# Altium schematic symbol library Iot_Flatform_lib_schematic.SchLib: 10 symbols
Pins are listed as number, name and electrical type; pins without a type are passive.

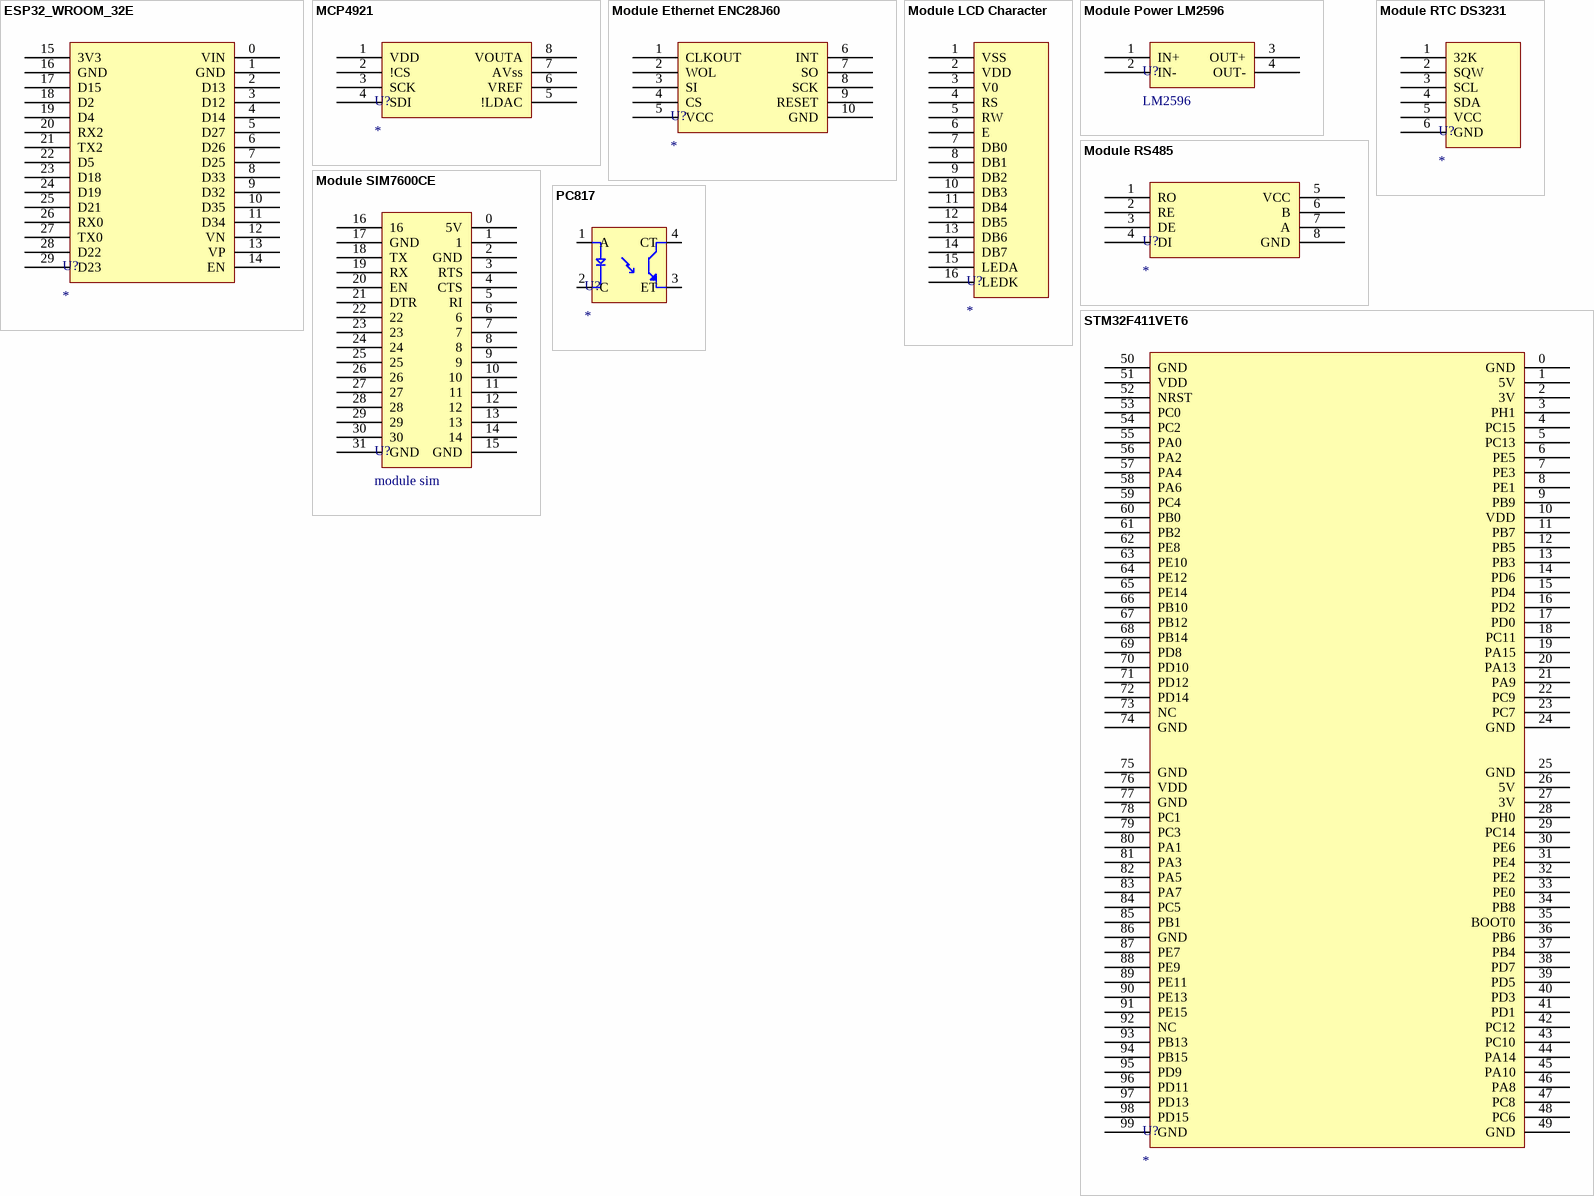
[diagram p0: symbols ESP32_WROOM_32E to STM32F411VET6]

## ESP32_WROOM_32E
designator U?
pins: 0 VIN, 1 GND, 2 D13, 3 D12, 4 D14, 5 D27, 6 D26, 7 D25, 8 D33, 9 D32, 10 D35, 11 D34, 12 VN, 13 VP, 14 EN, 15 3V3, 16 GND, 17 D15, 18 D2, 19 D4, 20 RX2, 21 TX2, 22 D5, 23 D18, 24 D19, 25 D21, 26 RX0, 27 TX0, 28 D22, 29 D23

## MCP4921
designator U?
Interface SPI
footprint SOIC127P600X175-8N
pins: 1 VDD, 2 !CS, 3 SCK, 4 SDI, 5 !LDAC, 6 VREF, 7 AVss, 8 VOUTA

## Module Ethernet ENC28J60
designator U?
Interface SPI
pins: 1 CLKOUT, 2 WOL, 3 SI, 4 CS, 5 VCC, 6 INT, 7 SO, 8 SCK, 9 RESET, 10 GND

## Module LCD Character
designator U?
Interface GPIO
footprint LCD_1604
pins: 1 VSS, 2 VDD, 3 V0, 4 RS, 5 RW, 6 E, 7 DB0, 8 DB1, 9 DB2, 10 DB3, 11 DB4, 12 DB5, 13 DB6, 14 DB7, 15 LEDA, 16 LEDK

## Module Power LM2596
designator U?, comment LM2596
DC-DC Buck LM2596 3A
pins: 1 IN+, 2 IN-, 3 OUT+, 4 OUT-

## Module RS485
designator U?
Using module through UART
footprint MODULE_RS485
pins: 1 RO, 2 RE, 3 DE, 4 DI, 5 VCC, 6 B, 7 A, 8 GND

## Module RTC DS3231
designator U?
Interface I2C
footprint Module_DS3231
pins: 1 32K, 2 SQW, 3 SCL, 4 SDA, 5 VCC, 6 GND

## Module SIM7600CE
designator U?, comment module sim
pins: 0 5V, 1, 2 GND, 3 RTS, 4 CTS, 5 RI, 6, 7, 8, 9, 10, 11, 12, 13, 14, 15 GND, 16, 17 GND, 18 TX, 19 RX, 20 EN, 21 DTR, 22, 23, 24, 25, 26, 27, 28, 29, 30, 31 GND

## PC817
designator U?
Optoisolator Transistor Output 5000Vrms 1 Channel
footprint SOT254P975X400-4N
pins: 1 A, 2 C, 3 ET, 4 CT

## STM32F411VET6
designator U?
pins: 0 GND, 1 5V, 2 3V, 3 PH1, 4 PC15, 5 PC13, 6 PE5, 7 PE3, 8 PE1, 9 PB9, 10 VDD, 11 PB7, 12 PB5, 13 PB3, 14 PD6, 15 PD4, 16 PD2, 17 PD0, 18 PC11, 19 PA15, 20 PA13, 21 PA9, 22 PC9, 23 PC7, 24 GND, 25 GND, 26 5V, 27 3V, 28 PH0, 29 PC14, 30 PE6, 31 PE4, 32 PE2, 33 PE0, 34 PB8, 35 BOOT0, 36 PB6, 37 PB4, 38 PD7, 39 PD5, 40 PD3, 41 PD1, 42 PC12, 43 PC10, 44 PA14, 45 PA10, 46 PA8, 47 PC8, 48 PC6, 49 GND, 50 GND, 51 VDD, 52 NRST, 53 PC0, 54 PC2, 55 PA0, 56 PA2, 57 PA4, 58 PA6, 59 PC4, 60 PB0, 61 PB2, 62 PE8, 63 PE10, 64 PE12, 65 PE14, 66 PB10, 67 PB12, 68 PB14, 69 PD8, 70 PD10, 71 PD12, 72 PD14, 73 NC, 74 GND, 75 GND, 76 VDD, 77 GND, 78 PC1, 79 PC3, 80 PA1, 81 PA3, 82 PA5, 83 PA7, 84 PC5, 85 PB1, 86 GND, 87 PE7, 88 PE9, 89 PE11, 90 PE13, 91 PE15, 92 NC, 93 PB13, 94 PB15, 95 PD9, 96 PD11, 97 PD13, 98 PD15, 99 GND